# Altium footprint library L298N.PcbLib: 1 footprints
Each footprint in its own frame and in the unit in brackets; x right, y up, seen from the top. Pads: shape width x height; smd on the part's side, far side on the other; paste and mask are expansions set on the pad; w line width, h text height; cw(c..) or ccw(c..) is an arc to the next point about the centre after c.
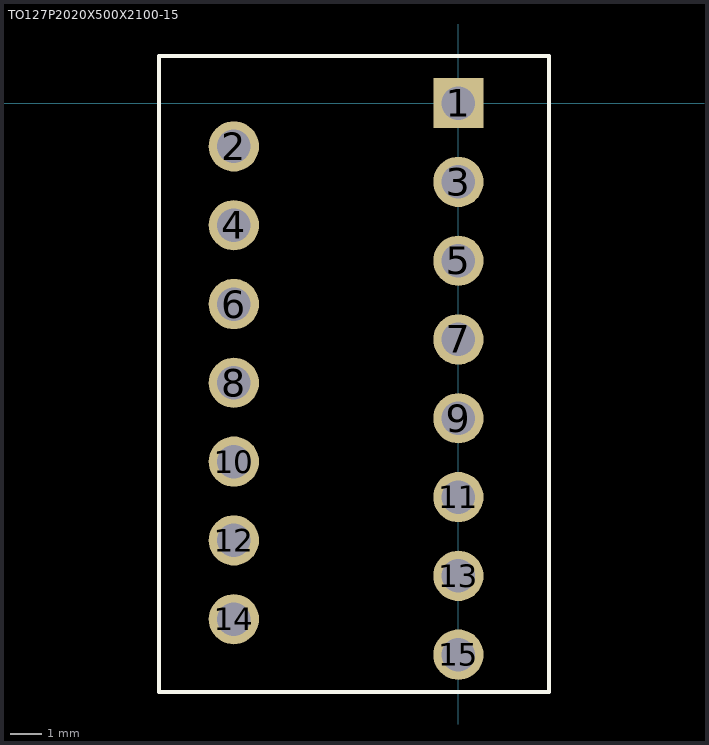
[diagram p0: the footprint, top view; thin cyan lines are the x and y axes]

## TO127P2020X500X2100-15 [mm]
pads (15):
  rect 1.62x1.62 hole 1.08: 1(0,0)
  round 1.62 hole 1.08: 2(-7.239,-1.397) 3(0,-2.54) 4(-7.239,-3.937) 5(0,-5.08) 6(-7.239,-6.477) 7(0,-7.62) 8(-7.239,-9.017) 9(0,-10.16) 10(-7.239,-11.557) 11(0,-12.7) 12(-7.239,-14.097) 13(0,-15.24) 14(-7.239,-16.637) 15(0,-17.78)
Top Overlay:
  lines w0.127: -9.652,-18.99 2.921,-18.99 2.921,1.524 -9.652,1.524 -9.652,-18.99